# Altium footprint library transistor-power.PCBLIB: 89 footprints (part 1 of 6)
Each footprint in its own frame and in the unit in brackets; x right, y up, seen from the top. Pads: shape width x height; smd on the part's side, far side on the other; paste and mask are expansions set on the pad; w line width, h text height; cw(c..) or ccw(c..) is an arc to the next point about the centre after c.
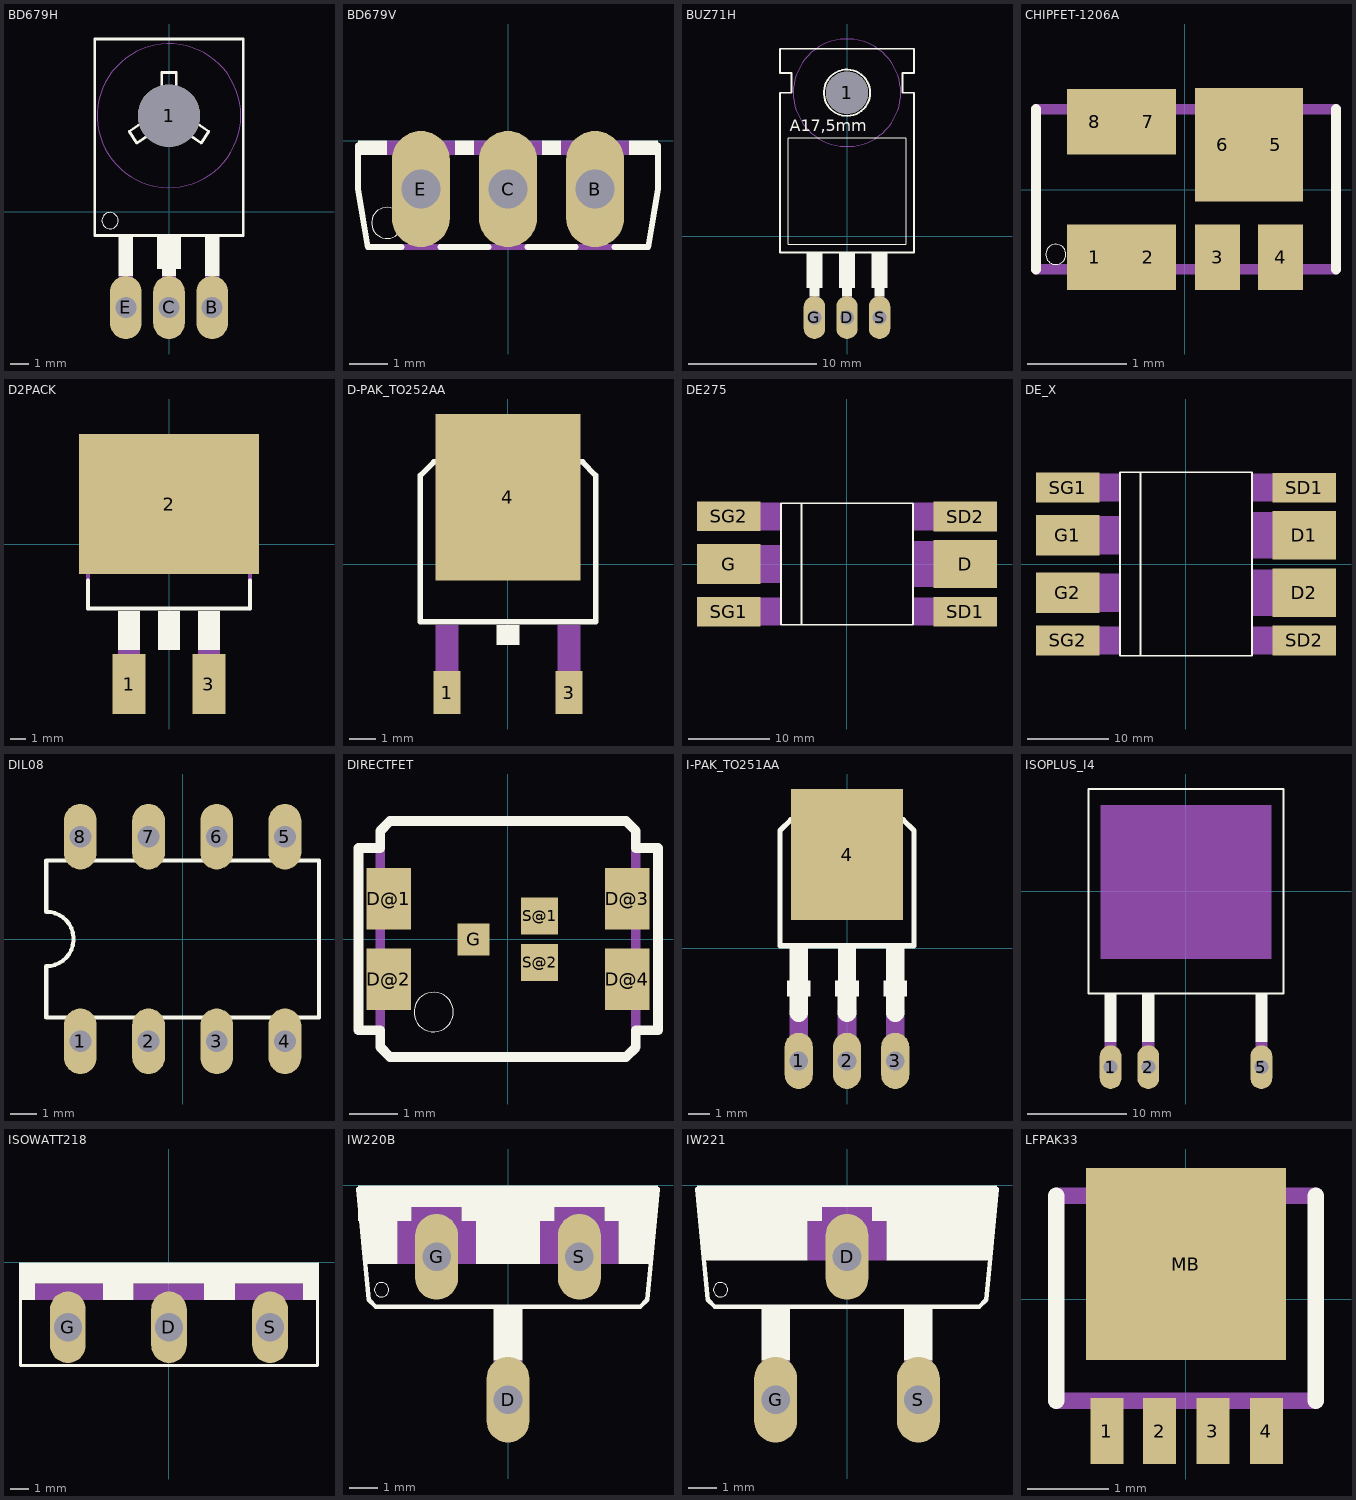
[diagram p0: the footprints below, top view; thin cyan lines are the x and y axes]

## BD679H [mil]
pads (4):
  round 130 hole 130: 1(0,200)
  oval 66x132 hole 44: B(90,-200) C(0,-200) E(-90,-200)
Top Overlay:
  circle w0: c-123,-19 r17
  circle w6: c0,200 r57
  rectangle: -25,-120 25,-50
  rectangle: -105,-135 -75,-50
  rectangle: -15,-135 15,-50
  rectangle: 75,-135 105,-50
  lines w6: 59,196 58,184 83,167 67,143 44,159 36,152 30,148 22,144 10,141 -2,140 -16,142 -26,146 -34,151 -43,159 -67,143 -83,167 -58,184 -60,196 -60,205 -58,215 -54,226 -47,237 -36,248 -23,256 -15,258 -15,290 15,290 15,258 20,257 28,253 36,248 43,242 49,234 54,225 57,217 59,206 59,197 ; -155,-50 -155,360 155,360 155,-50 -155,-50
Mechanical 9:
  circle w0: c0,200 r150
Mechanical 10:
  circle w0: c0,200 r150
Mechanical 16:
  rectangle: -105,-205 -75,-135
  rectangle: -15,-205 15,-135
  rectangle: 75,-205 105,-135

## BD679V [mil]
pads (3):
  oval 60x120 hole 40: B(90,-50) C(0,-50) E(-90,-50)
Top Overlay:
  circle w0: c-125,-85 r16
  rectangle: -155,-15 -125,0
  rectangle: -55,-15 -35,0
  rectangle: 35,-15 55,0
  rectangle: 125,-15 155,0
  lines w6: -155,-5 -155,-50 -145,-110 -110,-110 ; -70,-110 -20,-110 ; 20,-110 70,-110 ; 110,-110 145,-110 155,-50 155,-5
Mechanical 16:
  rectangle: -125,-15 -55,0
  rectangle: -35,-15 35,0
  rectangle: 55,-15 125,0
  lines w6: -110,-110 -70,-110 ; -20,-110 20,-110 ; 70,-110 110,-110

## BUZ71H [mil]
pads (4):
  round 130 hole 130: 1(0,440)
  oval 66x132 hole 44: D(0,-250) G(-100,-250) S(100,-250)
Top Overlay:
  circle w6: c0,440 r71
  rectangle: 85,-185 115,-160
  rectangle: -15,-185 15,-160
  rectangle: -115,-185 -85,-160
  rectangle: -125,-160 -75,-50
  rectangle: -25,-160 25,-50
  rectangle: 75,-160 125,-50
  lines w2: -180,-25 180,-25 180,300 -180,300 -180,-25
  lines w6: -205,-50 205,-50 205,440 170,440 170,500 205,500 205,575 -205,575 -205,500 -170,500 -170,440 -205,440 -205,-50
  text "A17,5mm" at -175,310 h62
Mechanical 9:
  circle w0: c0,440 r165
Mechanical 10:
  circle w0: c0,440 r165
Mechanical 16:
  rectangle: -115,-260 -85,-185
  rectangle: -15,-260 15,-185
  rectangle: 85,-260 115,-185

## CHIPFET-1206A [mil]
pads (8):
  rect 22x26 smd: 1(-35.83,-26.77) 2(-14.57,-26.77) 7(-14.57,27) 8(-35.83,27)
  rect 18x26 smd: 3(13,-26.77) 4(38,-26.77)
  rect 22x45 smd: 5(36,18) 6(15,18)
Top Overlay:
  circle w0: c-51.18,-25.59 r4
  lines w4: -59.06,-31.5 -59.06,32 ; 60,-31.5 60,32
Mechanical 16:
  rectangle: -45.28,-37.4 -31.5,-20.67
  rectangle: -19.68,-37.4 -5.91,-20.67
  rectangle: 6,-37.4 20,-20.67
  rectangle: 32,-37.4 46,-20.67
  region: 46,38 32,38 32,21 46,21
  region: 20,38 6,38 6,21 20,21
  region: -5.91,38 -19.68,38 -19.68,21 -5.91,21
  region: -31.5,38 -45.28,38 -45.28,21 -31.5,21
  lines w4: -59.06,-31.5 60,-31.5 ; -59.06,32 60,32

## D2PACK [mil]
pads (3):
  rect 82x150 smd: 1(-100,-350) 3(100,-350)
  rect 450x350 smd: 2(0,100)
Top Overlay:
  rectangle: -128,-265 -72,-167
  rectangle: 72,-265 128,-167
  rectangle: -28,-265 28,-167
  lines w10: -202,-91 -202,-161 202,-161 202,-91
Mechanical 16:
  rectangle: -122,-375 -78,-319
  rectangle: -128,-321 -72,-265
  rectangle: 78,-375 122,-319
  rectangle: 72,-321 128,-265
  lines w10: -202,-161 -202,175 ; 202,-161 202,175 ; -202,175 -202,185 -133,229 123,229 202,175 ; -202,175 202,175

## D-PAK_TO252AA [mil]
pads (3):
  rect 40x63 smd: 1(-89.76,-188.98) 3(90,-188.98)
  rect 213x245 smd: 4(0,99)
Top Overlay:
  rectangle: -17,-119 17,-89
  lines w8: -128.94,-84.65 129,-84.65 129,131 110,151 -109.25,151 -128.94,131 -128.94,-84.65
Mechanical 16:
  rectangle: -107,-203 -73,-89
  rectangle: 73,-203 107,-89
  region: 0,0 10,0 10,10 0,10
  lines w8: -101,155 -101,183 -83,201 83,201 101,183 101,155 -101,155

## DE275 [mil]
pads (6):
  rect 310x235 smd: D(575,0)
  rect 310x195 smd: G(-574.5,0)
  rect 310x145 smd: SD1(575,-232) SD2(575,231) SG1(-574.5,-232) SG2(-574.5,232)
Top Overlay:
  lines w8: -221,-296 321,-296 321,296 -221,296 ; -221,-296 -321,-296 -321,296 -221,296 ; -221,-296 -221,296
Mechanical 16:
  rectangle: -725,163 -325,300
  rectangle: -725,-93 -325,93
  rectangle: -725,-300 -325,-163
  rectangle: 325,163 725,300
  rectangle: 325,-113 725,113
  rectangle: 325,-300 725,-163

## DE_X [mil]
pads (8):
  rect 310x235 smd: D1(575,140) D2(575,-140)
  rect 310x195 smd: G1(-574.5,140) G2(-574.5,-140)
  rect 310x145 smd: SD1(575,371) SD2(575,-372) SG1(-574.5,372) SG2(-574.5,-372)
Top Overlay:
  lines w8: -221,-446 321,-446 321,446 -221,446 ; -221,-446 -321,-446 -321,446 -221,446 ; -221,-446 -221,446
Mechanical 16:
  rectangle: -725,303 -325,440
  rectangle: -725,-233 -325,-47
  rectangle: -725,-440 -325,-303
  rectangle: 325,303 725,440
  rectangle: 325,-253 725,-27
  rectangle: 325,-440 725,-303
  rectangle: -725,47 -325,233
  rectangle: 325,27 725,253

## DIL08 [mil]
pads (8):
  oval 48x96 hole 32: 1(-150,-150) 2(-50,-150) 3(50,-150) 4(150,-150) 5(150,150) 6(50,150) 7(-50,150) 8(-150,150)
Top Overlay:
  lines w6: -200,-115 200,-115 200,115 -200,115 -200,40 cw(c-200,0) -200,-40 -200,-115

## DIRECTFET [mil]
pads (7):
  rect 36x50 smd: D@1(-96.46,33) D@2(-96.46,-32.48) D@3(97,33) D@4(97,-32.48)
  rect 26x26 smd: G(-27.56,0)
  rect 30x30 smd: S@1(26,19) S@2(26,-18.7)
Top Overlay:
  circle w0: c-60.04,-59.06 r16
  lines w8: -121.06,-73.82 -103.35,-73.82 -103.35,-87.6 -95.47,-95.47 96,-95.47 104,-87.6 104,-73.82 122,-73.82 122,74 104,74 104,88 96,96 -95.47,96 -103.35,88 -103.35,74 -121.06,74 -121.06,-73.82
Mechanical 16:
  lines w8: -103.35,-73.82 -103.35,74 ; 104,-73.82 104,74

## I-PAK_TO251AA [mil]
pads (4):
  oval 52.5x105 hole 35: 1(-90,-210) 2(0,-210) 3(90,-210)
  rect 210x245 smd: 4(0,175)
Top Overlay:
  rectangle: -22,-90 22,-60
  rectangle: -17,-60 17,0
  rectangle: -112,-90 -68,-60
  rectangle: 68,-90 112,-60
  rectangle: -107,-60 -73,0
  rectangle: 73,-60 107,0
  lines w10: -100,240 100,240 ; -100,240 -105,240 -125,220 -125,5 125,5 125,220 105,240 100,240 ; -100,240 -100,270 -65,290 65,290 100,270 100,240
  lines w35: -90,-120 -90,-90 ; 0,-120 0,-90 ; 90,-120 90,-90
Mechanical 16:
  lines w35: -90,-210 -90,-120 ; 0,-210 0,-120 ; 90,-210 90,-120

## ISOPLUS_I4 [mil]
pads (3):
  oval 87x174 hole 56: 1(-300,-700) 2(-150,-700) 5(300,-700)
Top Overlay:
  region: 324,-407.48 276,-407.48 276,-600.39 324,-600.39
  region: -125,-407.48 -174.21,-407.48 -174.21,-599.41 -125,-599.41
  region: -275.59,-407.48 -323.82,-407.48 -323.82,-600.39 -275.59,-600.39
  lines w8: -387.8,-406.5 388,-406.5 388,407 -387.8,407 -387.8,-406.5
Mechanical 16:
  rectangle: -323.82,-713.58 -275.59,-600.39
  rectangle: -174.21,-713.58 -125,-599.41
  rectangle: 276,-713.58 324,-600.39
  rectangle: -340.55,-269.69 341,343

## ISOWATT218 [mil]
pads (3):
  oval 76x152 hole 60: D(0,-137.8) G(-215,-137.8) S(215,-137.8)
Top Overlay:
  rectangle: -318.9,-45 319,0
  rectangle: -140,-80 -75,-45
  rectangle: 75,-80 140,-45
  rectangle: -318.9,-80 -285,-45
  rectangle: 285,-80 319,-45
  lines w6: -315.94,-78.74 -315.94,-219.49 316,-219.49 316,-77.76
Mechanical 16:
  rectangle: 140,-80 285,-45
  rectangle: -285,-80 -140,-45
  rectangle: -75,-80 75,-45

## IW220B [mil]
pads (3):
  oval 60x120 hole 40: D(0,-300) G(-100,-100) S(100,-100)
Top Overlay:
  circle w0: c-177,-146 r10
  rectangle: -210,-30 210,0
  rectangle: -210,-50 -135,-30
  rectangle: -20,-245 20,-170
  rectangle: -65,-50 65,-30
  rectangle: 155,-110 200,-50
  rectangle: 135,-50 205,-30
  rectangle: 200,-75 205,-50
  rectangle: -45,-110 45,-50
  rectangle: -200,-110 -155,-50
  rectangle: -205,-75 -200,-50
  lines w6: -210,-5 -195,-160 -185,-170 185,-170 195,-160 210,-5
Mechanical 16:
  rectangle: -135,-50 -65,-30
  rectangle: 65,-50 135,-30
  rectangle: -20,-300 20,-245
  rectangle: 45,-110 155,-50
  rectangle: -155,-110 -45,-50
  text "G" at -120,-160 h62
  text "D" at -15,-160 h62
  text "S" at 80,-160 h62

## IW221 [mil]
pads (3):
  oval 60x120 hole 40: D(0,-100) G(-100,-300) S(100,-300)
Top Overlay:
  circle w0: c-177,-146 r10
  rectangle: -210,-30 210,0
  rectangle: -120,-245 -80,-170
  rectangle: 80,-245 120,-170
  rectangle: 35,-50 205,-30
  rectangle: 55,-105 200,-50
  rectangle: -200,-105 -55,-50
  rectangle: -205,-50 -35,-30
  rectangle: 200,-80 205,-50
  rectangle: -205,-80 -200,-50
  lines w6: -210,-5 -195,-160 -185,-170 185,-170 195,-160 210,-5
Mechanical 16:
  rectangle: -35,-50 35,-30
  rectangle: -120,-300 -80,-245
  rectangle: 80,-300 120,-245
  rectangle: -55,-105 55,-50
  text "G" at -125,-160 h62
  text "D" at -15,-160 h62
  text "S" at 80,-160 h62

## LFPAK33 [mil]
pads (5):
  rect 16x32 smd: 1(-38.39,-63.98) 2(-12.8,-63.98) 3(13,-63.98) 4(39,-63.98)
  rect 97x93 smd: MB(0,17)
Top Overlay:
  lines w8: -62.99,-49.21 -62.99,50 ; 63,-49.21 63,50
Mechanical 16:
  rectangle: -45.28,54 -31.5,63
  rectangle: -45.28,-70.87 -31.5,-53.15
  rectangle: -19.68,54 -5.91,63
  rectangle: -19.68,-70.87 -5.91,-53.15
  rectangle: 6,54 20,63
  rectangle: 6,-70.87 20,-53.15
  rectangle: 32,54 46,63
  rectangle: 32,-70.87 46,-53.15
  lines w8: -62.99,-49.21 63,-49.21 ; -62.99,50 63,50